# Altium footprint library protector.PcbLib: 1 footprints
Each footprint in its own frame and in the unit in brackets; x right, y up, seen from the top. Pads: shape width x height; smd on the part's side, far side on the other; paste and mask are expansions set on the pad; w line width, h text height; cw(c..) or ccw(c..) is an arc to the next point about the centre after c.
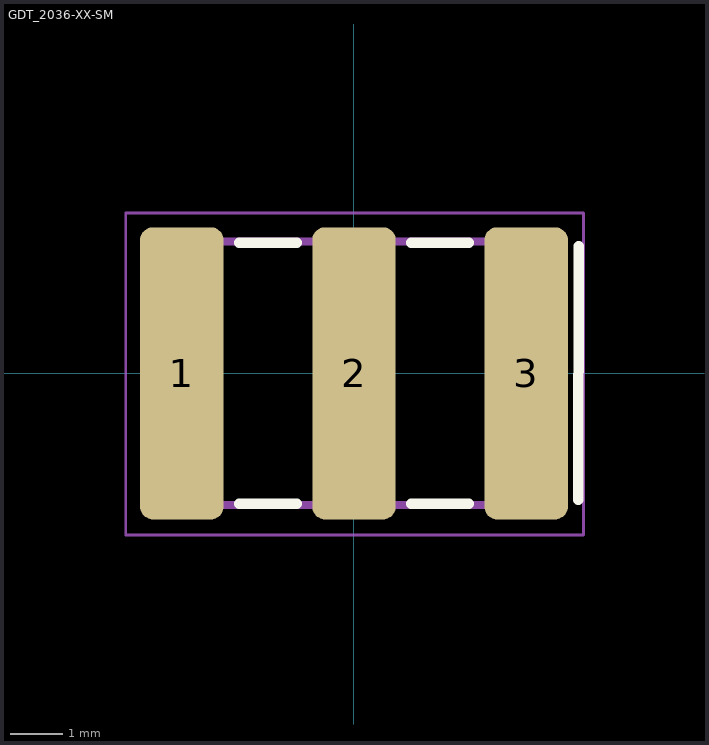
[diagram p0: the footprint, top view; thin cyan lines are the x and y axes]

## GDT_2036-XX-SM [mm]
pads (3):
  rrect30% 1.6x5.6 smd paste-25.4: 1(-3.3,0) 2(0,0) 3(3.3,0)
Top Overlay:
  lines w0.2: -2.2,-2.5 -1.1,-2.5 ; -2.2,2.5 -1.1,2.5 ; 1.1,-2.5 2.2,-2.5 ; 1.1,2.5 2.2,2.5 ; 4.3,-2.425 4.312,2.434
Top Paste:
  region: -0.7,-2.65 0.7,-2.65 0.7,2.65 -0.7,2.65
  region: 2.6,-2.65 4,-2.65 4,2.65 2.6,2.65
  region: -4,-2.65 -2.6,-2.65 -2.6,2.65 -4,2.65
Top Designator:
  text ".Designator" at -2.924,3.475 h0.6
Top Assembly:
  lines w0.15: 2.7,-2.525 2.7,2.525 ; -3.725,-2.525 -3.725,2.525 3.75,2.525 3.75,-2.525 -3.725,-2.525
Top Courtyard:
  lines w0.05: -4.375,-3.1 -4.375,3.075 4.4,3.075 4.4,-3.1 -4.375,-3.1
  lines w0.1: -0.5,0 0.5,0 ; 0,-0.5 0,0.5
3D body "GDT__Bourns_2038-xx-SM_series.stp": height 5.1, standoff 0.1, extent -3.752,-2.498 3.748,2.502